# Altium schematic symbol library Sensor_Touch.SchLib: 24 symbols
Pins are listed as number, name and electrical type; pins without a type are passive.

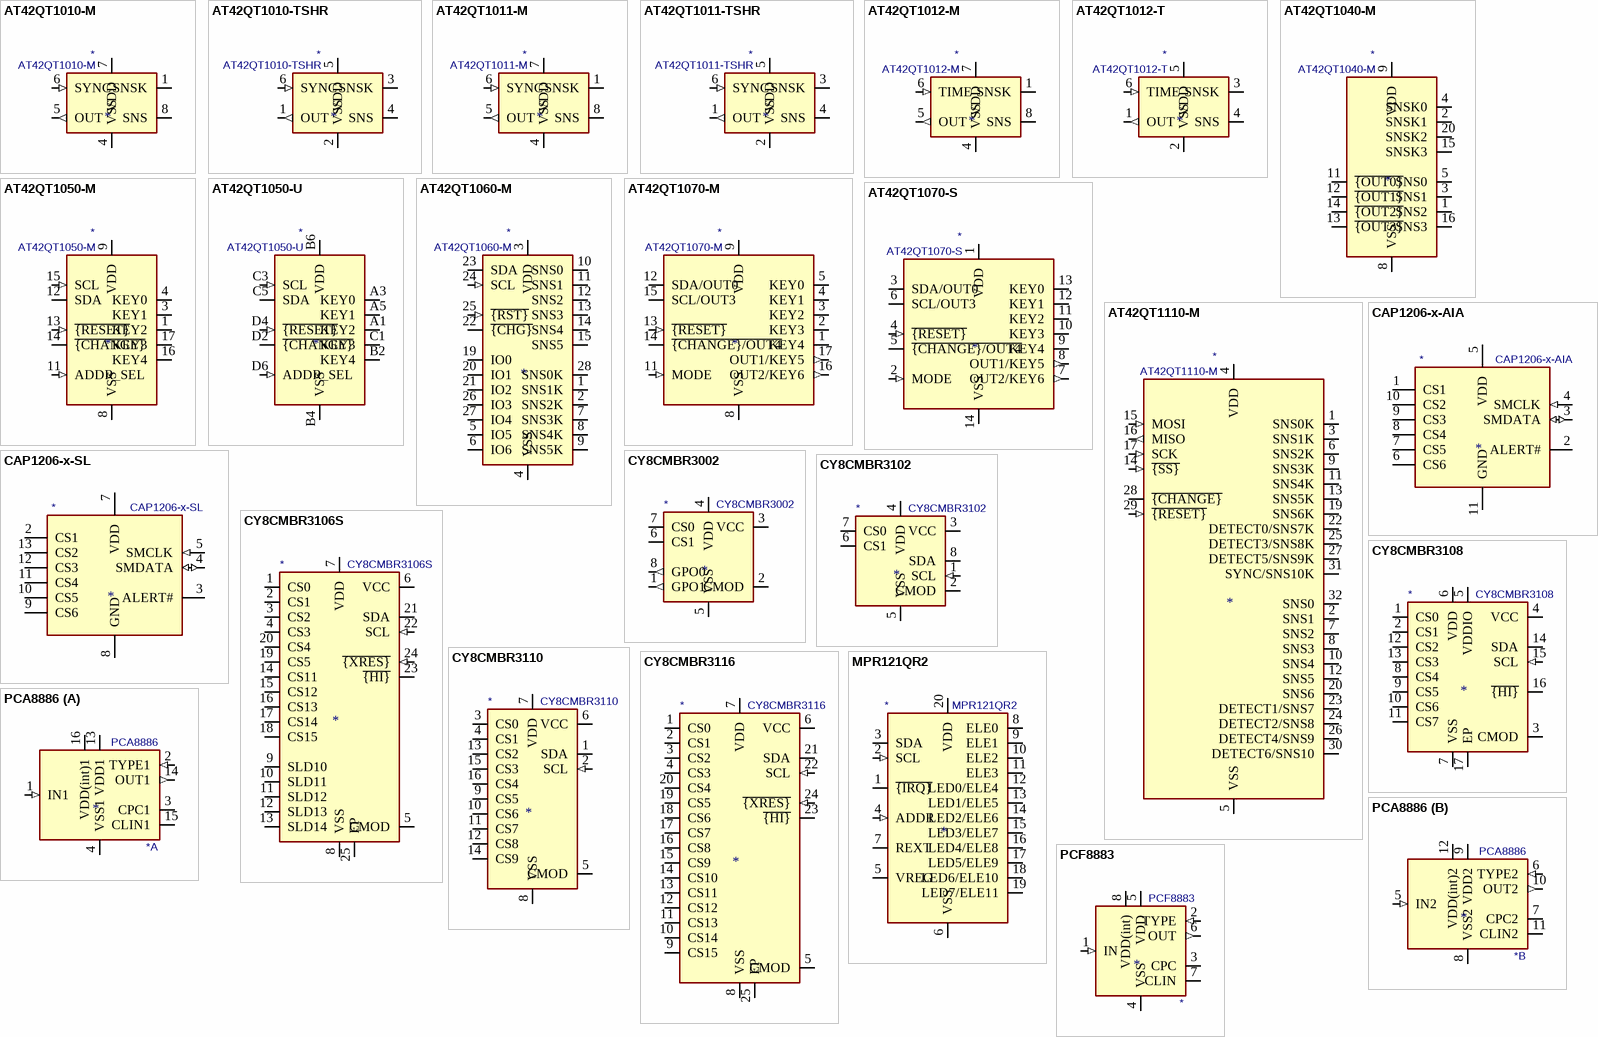
[diagram p0: symbols AT42QT1010-M to PCF8883]

## AT42QT1010-M
designator *  value AT42QT1010-M
ki_keywords: Touch QTouch Sensor Key; ki_description: Single-key Touch Sensor, UDFN-8; ki_fp_filters: DFN*1EP*2x2mm*P0.5mm*; Footprint: Package_DFN_QFN:DFN-8-1EP_2x2mm_P0.5mm_EP0.9x1.5mm; Supplier: http://ww1.microchip.com/downloads/en/DeviceDoc/40001946A.pdf
footprint DFN-8-1EP_2x2mm_P0.5mm_EP0.9x1.5mm
pins: 1 SNSK, 2 NC (in) hidden, 3 NC (in) hidden, 4 VSS (power), 5 OUT (out), 6 SYNC (in), 7 VDD (power), 8 SNS, 9 VSS hidden

## AT42QT1010-TSHR
designator *  value AT42QT1010-TSHR
ki_keywords: Touch QTouch Sensor Key; ki_description: Single-key Touch Sensor, SOT-23-6; ki_fp_filters: SOT?23*; Footprint: Package_TO_SOT_SMD:SOT-23-6; Supplier: http://ww1.microchip.com/downloads/en/DeviceDoc/40001946A.pdf
footprint SOT-23-6
pins: 1 OUT (out), 2 VSS (power), 3 SNSK, 4 SNS, 5 VDD (power), 6 SYNC (in)

## AT42QT1011-M
designator *  value AT42QT1011-M
ki_keywords: Touch QTouch Sensor Key; ki_description: Single-key Touch Sensor, UDFN-8; ki_fp_filters: DFN*1EP*2x2mm*P0.5mm*; Footprint: Package_DFN_QFN:DFN-8-1EP_2x2mm_P0.5mm_EP0.9x1.5mm; Supplier: http://ww1.microchip.com/downloads/en/DeviceDoc/40001947A.pdf
footprint DFN-8-1EP_2x2mm_P0.5mm_EP0.9x1.5mm
pins: 1 SNSK, 2 NC (in) hidden, 3 NC (in) hidden, 4 VSS (power), 5 OUT (out), 6 SYNC (in), 7 VDD (power), 8 SNS, 9 VSS hidden

## AT42QT1011-TSHR
designator *  value AT42QT1011-TSHR
ki_keywords: Touch QTouch Sensor Key; ki_description: Single-key Touch Sensor, SOT-23-6; ki_fp_filters: SOT?23*; Footprint: Package_TO_SOT_SMD:SOT-23-6; Supplier: http://ww1.microchip.com/downloads/en/DeviceDoc/40001947A.pdf
footprint SOT-23-6
pins: 1 OUT (out), 2 VSS (power), 3 SNSK, 4 SNS, 5 VDD (power), 6 SYNC (in)

## AT42QT1012-M
designator *  value AT42QT1012-M
ki_keywords: Touch QTouch Sensor Key; ki_description: Single-Key Touch Sensor IC, UDFN-8; ki_fp_filters: DFN*1EP*2x2mm*P0.5mm*; Footprint: Package_DFN_QFN:DFN-8-1EP_2x2mm_P0.5mm_EP0.9x1.5mm; Supplier: http://ww1.microchip.com/downloads/en/DeviceDoc/40001948A.pdf
footprint DFN-8-1EP_2x2mm_P0.5mm_EP0.9x1.5mm
pins: 1 SNSK, 2 NC (in) hidden, 3 NC (in) hidden, 4 VSS (power), 5 OUT (out), 6 TIME (in), 7 VDD (power), 8 SNS, 9 VSS hidden

## AT42QT1012-T
designator *  value AT42QT1012-T
ki_keywords: Touch QTouch Sensor Key; ki_description: Single-Key Touch Sensor IC, SOT-23-6; ki_fp_filters: SOT?23*; Footprint: Package_TO_SOT_SMD:SOT-23-6; Supplier: http://ww1.microchip.com/downloads/en/DeviceDoc/40001948A.pdf
footprint SOT-23-6
pins: 1 OUT (out), 2 VSS (power), 3 SNSK, 4 SNS, 5 VDD (power), 6 TIME (in)

## AT42QT1040-M
designator *  value AT42QT1040-M
ki_keywords: Touch QTouch Sensor Key; ki_description: Four-key Touch Sensor IC, VQFN-20; ki_fp_filters: VQFN*1EP*3x3mm*P0.45mm*; Footprint: Package_DFN_QFN:VQFN-20-1EP_3x3mm_P0.45mm_EP1.55x1.55mm; Supplier: http://ww1.microchip.com/downloads/en/DeviceDoc/Atmel-9524-AT42-QTouch-BSW-AT42QT1040_Datasheet.pdf
footprint VQFN-20-1EP_3x3mm_P0.45mm_EP1.55x1.55mm
pins: 1 SNS2, 2 SNSK1, 3 SNS1, 4 SNSK0, 5 SNS0, 6 NC (in) hidden, 7 NC (in) hidden, 8 VSS (power), 9 VDD (power), 10 NC (in) hidden, 11 ~{{OUT0}} (oc), 12 ~{{OUT1}} (oc), 13 ~{{OUT3}} (oc), 14 ~{{OUT2}} (oc), 15 SNSK3, 16 SNS3, 17 NC (in) hidden, 18 NC (in) hidden, 19 NC (in) hidden, 20 SNSK2, 21 VSS hidden

## AT42QT1050-M
designator *  value AT42QT1050-M
ki_keywords: Touch QTouch Sensor Key; ki_description: Five-Key Touch Sensor, VQFN-20; ki_fp_filters: VQFN*1EP*3x3mm*P0.45mm*; Footprint: Package_DFN_QFN:VQFN-20-1EP_3x3mm_P0.45mm_EP1.55x1.55mm; Supplier: http://ww1.microchip.com/downloads/en/DeviceDoc/Atmel-9707-AT42-QTouch-BSW-AT42QT1050_Datasheet.pdf
footprint VQFN-20-1EP_3x3mm_P0.45mm_EP1.55x1.55mm
pins: 1 KEY2, 2 NC (in) hidden, 3 KEY1, 4 KEY0, 5 NC (in) hidden, 6 NC (in) hidden, 7 NC (in) hidden, 8 VSS (power), 9 VDD (power), 10 NC (in) hidden, 11 ADDR_SEL (in), 12 SDA (io), 13 ~{{RESET}} (in), 14 ~{{CHANGE}} (oc), 15 SCL (in), 16 KEY4, 17 KEY3, 18 NC (in) hidden, 19 NC (in) hidden, 20 NC (in) hidden, 21 VSS hidden

## AT42QT1050-U
designator *  value AT42QT1050-U
ki_keywords: Touch QTouch Sensor Key; ki_description: Five-Key Touch Sensor, WLCSP-12; ki_fp_filters: WLCSP*1.403x1.555mm*P0.4mm*; Footprint: Package_CSP:WLCSP-12_1.403x1.555mm_P0.4mm_Stagger; Supplier: http://ww1.microchip.com/downloads/en/DeviceDoc/Atmel-9707-AT42-QTouch-BSW-AT42QT1050_Datasheet.pdf
footprint WLCSP-12_1.403x1.555mm_P0.4mm_Stagger
pins: A1 KEY2, A3 KEY0, A5 KEY1, B2 KEY4, B4 VSS (power), B6 VDD (power), C1 KEY3, C3 SCL (in), C5 SDA (io), D2 ~{{CHANGE}} (oc), D4 ~{{RESET}} (in), D6 ADDR_SEL (in)

## AT42QT1060-M
designator *  value AT42QT1060-M
ki_keywords: Touch QTouch Sensor Key; ki_description: Six-Key Touch Sensor IC, VQFN-28; ki_fp_filters: VQFN*1EP*4x4mm*P0.45mm*; Footprint: Package_DFN_QFN:VQFN-28-1EP_4x4mm_P0.45mm_EP2.4x2.4mm; Supplier: http://ww1.microchip.com/downloads/en/DeviceDoc/Atmel-9505-AT42-QTouch-BSW-AT42QT1060_Datasheet.pdf
footprint VQFN-28-1EP_4x4mm_P0.45mm_EP2.4x2.4mm
pins: 1 SNS1K, 2 SNS2K, 3 VDD (power), 4 VSS (power), 5 IO5 (io), 6 IO6 (io), 7 SNS3K, 8 SNS4K, 9 SNS5K, 10 SNS0, 11 SNS1, 12 SNS2, 13 SNS3, 14 SNS4, 15 SNS5, 16 VDD hidden, 17 VDD hidden, 18 VSS hidden, 19 IO0 (io), 20 IO1 (io), 21 IO2 (io), 22 ~{{CHG}} (oc), 23 SDA (io), 24 SCL (in), 25 ~{{RST}} (in), 26 IO3 (io), 27 IO4 (io), 28 SNS0K, 29 VSS hidden

## AT42QT1070-M
designator *  value AT42QT1070-M
ki_keywords: Touch QTouch Sensor Key; ki_description: Seven-key Touch Sensor IC, VQFN-20; ki_fp_filters: VQFN*1EP*3x3mm*P0.45mm*; Footprint: Package_DFN_QFN:VQFN-20-1EP_3x3mm_P0.45mm_EP1.55x1.55mm; Supplier: http://ww1.microchip.com/downloads/en/DeviceDoc/Atmel-9596-AT42-QTouch-BSW-AT42QT1070_Datasheet.pdf
footprint VQFN-20-1EP_3x3mm_P0.45mm_EP1.55x1.55mm
pins: 1 KEY4, 2 KEY3, 3 KEY2, 4 KEY1, 5 KEY0, 6 NC (in) hidden, 7 NC (in) hidden, 8 VSS (power), 9 VDD (power), 10 NC (in) hidden, 11 MODE (in), 12 SDA/OUT0 (io), 13 ~{{RESET}} (in), 14 ~{{CHANGE}/OUT4} (oc), 15 SCL/OUT3 (io), 16 OUT2/KEY6 (out), 17 OUT1/KEY5 (out), 18 NC (in) hidden, 19 NC (in) hidden, 20 NC (in) hidden, 21 VSS hidden

## AT42QT1070-S
designator *  value AT42QT1070-S
ki_keywords: Touch QTouch Sensor Key; ki_description: Seven-key Touch Sensor IC, SOIC-14; ki_fp_filters: SOIC*3.9x8.7mm*P1.27mm*; Footprint: Package_SO:SOIC-14_3.9x8.7mm_P1.27mm; Supplier: http://ww1.microchip.com/downloads/en/DeviceDoc/Atmel-9596-AT42-QTouch-BSW-AT42QT1070_Datasheet.pdf
footprint SOIC-14_3.9x8.7mm_P1.27mm
pins: 1 VDD (power), 2 MODE (in), 3 SDA/OUT0 (io), 4 ~{{RESET}} (in), 5 ~{{CHANGE}/OUT4} (oc), 6 SCL/OUT3 (io), 7 OUT2/KEY6 (out), 8 OUT1/KEY5 (out), 9 KEY4, 10 KEY3, 11 KEY2, 12 KEY1, 13 KEY0, 14 VSS (power)

## AT42QT1110-M
designator *  value AT42QT1110-M
ki_keywords: Touch QTouch Sensor Key; ki_description: 11-Key Touch Sensor IC, VQFN-32; ki_fp_filters: VQFN*1EP*5x5mm*P0.5mm*; Footprint: Package_DFN_QFN:VQFN-32-1EP_5x5mm_P0.5mm_EP3.1x3.1mm; Supplier: http://ww1.microchip.com/downloads/en/DeviceDoc/Atmel-9520-AT42-QTouch-BSW-AT42QT1110_Datasheet.pdf
footprint VQFN-32-1EP_5x5mm_P0.5mm_EP3.1x3.1mm
pins: 1 SNS0K, 2 SNS1, 3 SNS1K, 4 VDD (power), 5 VSS (power), 6 SNS2K, 7 SNS2, 8 SNS3, 9 SNS3K, 10 SNS4, 11 SNS4K, 12 SNS5, 13 SNS5K, 14 ~{{SS}} (in), 15 MOSI (in), 16 MISO (out), 17 SCK (in), 18 VDD hidden, 19 SNS6K, 20 SNS6, 21 VSS hidden, 22 DETECT0/SNS7K (io), 23 DETECT1/SNS7 (io), 24 DETECT2/SNS8 (io), 25 DETECT3/SNS8K (io), 26 DETECT4/SNS9 (io), 27 DETECT5/SNS9K (io), 28 ~{{CHANGE}} (oc), 29 ~{{RESET}} (in), 30 DETECT6/SNS10 (io), 31 SYNC/SNS10K (io), 32 SNS0, 33 VSS hidden

## CAP1206-x-AIA
designator *  value CAP1206-x-AIA
ki_keywords: 6 Channel Capacitive Touch Sensor; ki_description: 6-Channel Capacitive Touch Sensor, DFN-10; ki_fp_filters: DFN*1EP*3x3mm*P0.5mm*; Footprint: Package_DFN_QFN:DFN-10-1EP_3x3mm_P0.5mm_EP1.55x2.48mm; Supplier: http://ww1.microchip.com/downloads/en/DeviceDoc/00001567B.pdf
footprint DFN-10-1EP_3x3mm_P0.5mm_EP1.55x2.48mm
pins: 1 CS1, 2 ALERT# (oc), 3 SMDATA (io), 4 SMCLK (in), 5 VDD (power), 6 CS6, 7 CS5, 8 CS4, 9 CS3, 10 CS2, 11 GND (power)

## CAP1206-x-SL
designator *  value CAP1206-x-SL
ki_keywords: 6 Channel Capacitive Touch Sensor; ki_description: 6-Channel Capacitive Touch Sensor, SOIC-14; ki_fp_filters: SOIC?14*3.9x8.7mm*P1.27mm*; Footprint: Package_SO:SOIC-14_3.9x8.7mm_P1.27mm; Supplier: http://ww1.microchip.com/downloads/en/DeviceDoc/00001567B.pdf
footprint SOIC-14_3.9x8.7mm_P1.27mm
pins: 2 CS1, 3 ALERT# (oc), 4 SMDATA (io), 5 SMCLK (in), 7 VDD (power), 8 GND (power), 9 CS6, 10 CS5, 11 CS4, 12 CS3, 13 CS2

## CY8CMBR3002
designator *  value CY8CMBR3002
ki_keywords: Touch Sensor 2ch; ki_description: CapSense Controller, 2 Sensors, SOIC-8; ki_fp_filters: SOIC*3.9x4.9mm*P1.27mm*; Footprint: Package_SO:SOIC-8_3.9x4.9mm_P1.27mm; Supplier: http://www.cypress.com/?docID=49119
footprint SOIC-8_3.9x4.9mm_P1.27mm
pins: 1 GPO1 (out), 2 CMOD, 3 VCC, 4 VDD (power), 5 VSS (power), 6 CS1, 7 CS0, 8 GPO0 (out)

## CY8CMBR3102
designator *  value CY8CMBR3102
ki_keywords: Touch Sensor 2ch; ki_description: CapSense Controller, 2 Sensors, SOIC-8; ki_fp_filters: SOIC*3.9x4.9mm*P1.27mm*; Footprint: Package_SO:SOIC-8_3.9x4.9mm_P1.27mm; Supplier: http://www.cypress.com/?docID=49119
footprint SOIC-8_3.9x4.9mm_P1.27mm
pins: 1 SCL (in), 2 CMOD, 3 VCC, 4 VDD (power), 5 VSS (power), 6 CS1, 7 CS0, 8 SDA (io)

## CY8CMBR3106S
designator *  value CY8CMBR3106S
ki_keywords: Touch Sensor 16ch Slider; ki_description: CapSense Controller, 16 Sensors w/ Slider, QFN-24+EP; ki_fp_filters: QFN*1EP*4x4mm*P0.5mm*; Footprint: Package_DFN_QFN:QFN-24-1EP_4x4mm_P0.5mm_EP2.6x2.6mm; Supplier: http://www.cypress.com/?docID=49119
footprint QFN-24-1EP_4x4mm_P0.5mm_EP2.6x2.6mm
pins: 1 CS0, 2 CS1, 3 CS2, 4 CS3, 5 CMOD, 6 VCC, 7 VDD (power), 8 VSS (power), 9 SLD10, 10 SLD11, 11 SLD12, 12 SLD13, 13 SLD14, 14 CS11, 15 CS12, 16 CS13, 17 CS14, 18 CS15, 19 CS5, 20 CS4, 21 SDA (io), 22 SCL (in), 23 ~{{HI}} (io), 24 ~{{XRES}} (in), 25 EP

## CY8CMBR3108
designator *  value CY8CMBR3108
ki_keywords: Touch Sensor 8ch; ki_description: CapSense Controller, 8 Sensors, QFN-16+EP; ki_fp_filters: QFN*1EP*3x3mm*P0.5mm*; Footprint: Package_DFN_QFN:QFN-16-1EP_3x3mm_P0.5mm_EP1.8x1.8mm; Supplier: http://www.cypress.com/?docID=49119
footprint QFN-16-1EP_3x3mm_P0.5mm_EP1.8x1.8mm
pins: 1 CS0, 2 CS1, 3 CMOD, 4 VCC, 5 VDDIO (power), 6 VDD (power), 7 VSS (power), 8 CS4, 9 CS5, 10 CS6, 11 CS7, 12 CS2, 13 CS3, 14 SDA (io), 15 SCL (in), 16 ~{{HI}} (io), 17 EP

## CY8CMBR3110
designator *  value CY8CMBR3110
ki_keywords: Touch Sensor 10ch; ki_description: CapSense Controller, 10 Sensors, SOIC-16; ki_fp_filters: SOIC*3.9x9.9mm*P1.27mm*; Footprint: Package_SO:SOIC-16_3.9x9.9mm_P1.27mm; Supplier: http://www.cypress.com/?docID=49119
footprint SOIC-16_3.9x9.9mm_P1.27mm
pins: 1 SDA (io), 2 SCL (in), 3 CS0, 4 CS1, 5 CMOD, 6 VCC, 7 VDD (power), 8 VSS (power), 9 CS5, 10 CS6, 11 CS7, 12 CS8, 13 CS2, 14 CS9, 15 CS3, 16 CS4

## CY8CMBR3116
designator *  value CY8CMBR3116
ki_keywords: Touch Sensor 16ch; ki_description: CapSense Controller, 16 Sensors, QFN-24+EP; ki_fp_filters: QFN*1EP*4x4mm*P0.5mm*; Footprint: Package_DFN_QFN:QFN-24-1EP_4x4mm_P0.5mm_EP2.6x2.6mm; Supplier: http://www.cypress.com/?docID=49119
footprint QFN-24-1EP_4x4mm_P0.5mm_EP2.6x2.6mm
pins: 1 CS0, 2 CS1, 3 CS2, 4 CS3, 5 CMOD, 6 VCC, 7 VDD (power), 8 VSS (power), 9 CS15, 10 CS14, 11 CS13, 12 CS12, 13 CS11, 14 CS10, 15 CS9, 16 CS8, 17 CS7, 18 CS6, 19 CS5, 20 CS4, 21 SDA (io), 22 SCL (in), 23 ~{{HI}} (io), 24 ~{{XRES}} (in), 25 EP

## MPR121QR2
designator *  value MPR121QR2
ki_keywords: Touch Sensor 12ch; ki_description: 12ch Touch Sensor controller, UQFN-20; ki_fp_filters: UQFN*3x3mm*P0.4mm*; Footprint: Package_DFN_QFN:UQFN-20_3x3mm_P0.4mm; Supplier: https://resurgentsemi.com/wp-content/uploads/2018/09/MPR121_rev5-Resurgent.pdf?d453f8&d453f8
footprint UQFN-20_3x3mm_P0.4mm
pins: 1 ~{{IRQ}} (oc), 2 SCL (in), 3 SDA (io), 4 ADDR (in), 5 VREG, 6 VSS (power), 7 REXT, 8 ELE0, 9 ELE1, 10 ELE2, 11 ELE3, 12 LED0/ELE4, 13 LED1/ELE5, 14 LED2/ELE6, 15 LED3/ELE7, 16 LED4/ELE8, 17 LED5/ELE9, 18 LED6/ELE10, 19 LED7/ELE11, 20 VDD (power)

## PCA8886
designator *  value PCA8886
ki_keywords: NXP capacitive touch sensor auto-calibration; ki_description: Dual capacitive touch/proximity switch with auto-calibration, TSSOP-16; ki_fp_filters: TSSOP*4.4x5mm*P0.65mm*; Footprint: Package_SO:TSSOP-16_4.4x5mm_P0.65mm; Supplier: http://www.nxp.com/docs/en/data-sheet/PCA8886.pdf
footprint TSSOP-16_4.4x5mm_P0.65mm
part A pins: 1 IN1 (in), 2 TYPE1 (in), 3 CPC1 (io), 4 VSS1 (power), 13 VDD1 (power), 14 OUT1 (out), 15 CLIN1 (io), 16 VDD(int)1 (power)
part B pins: 5 IN2 (in), 6 TYPE2 (in), 7 CPC2 (io), 8 VSS2 (power), 9 VDD2 (power), 10 OUT2 (out), 11 CLIN2 (io), 12 VDD(int)2 (power)

## PCF8883
designator *  value PCF8883
ki_keywords: NXP capacitive touch sensor auto-calibration; ki_description: Capacitive touch/proximity switch with auto-calibration, SOIC-8/WLCSP-8; ki_fp_filters: SOIC*3.9x4.9mm*P1.27mm* NXP*WLCSP*PCF8883*; Supplier: http://www.nxp.com/docs/en/data-sheet/PCF8883.pdf
pins: 1 IN (in), 2 TYPE (in), 3 CPC (io), 4 VSS (power), 5 VDD (power), 6 OUT (out), 7 CLIN (io), 8 VDD(int) (power)